# EAGLE library part LTC3388-X (library Oles komponentbibliotek)
High efficiency step-down DC/DC converters with internal high side and synchronous power switches capable of delivering 50 mA.
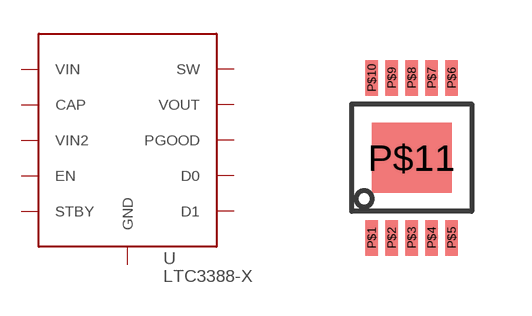
[diagram p43: symbol with the pads of MSOP10-SINK; footprint MSOP10-SINK]

Designator prefix -

## LTC3388-X  [MSOP10-SINK]
P$1  EN  in
P$2  STBY  in
P$3  CAP  sup
P$4  VIN  pwr
P$5  SW  in
P$6  VOUT  pwr
P$7  VIN2  sup
P$8  D1  in
P$9  D0  in
P$10  PGOOD  oc
P$11  GND  pwr

## Footprint MSOP10-SINK (pad centres in mm)
smd 0.305 x 0.889: P$1 -1,-2.1; P$2 -0.5,-2.1; P$3 0,-2.1; P$4 0.5,-2.1; P$5 1,-2.1; P$6 1,1.9; P$7 0.5,1.9; P$8 0,1.9; P$9 -0.5,1.9; P$10 -1,1.9
smd 2 x 1.75: P$11 0,-0.1